# Altium footprint library PcbLib1.PcbLib: 2 footprints
Each footprint in its own frame and in the unit in brackets; x right, y up, seen from the top. Pads: shape width x height; smd on the part's side, far side on the other; paste and mask are expansions set on the pad; w line width, h text height; cw(c..) or ccw(c..) is an arc to the next point about the centre after c.
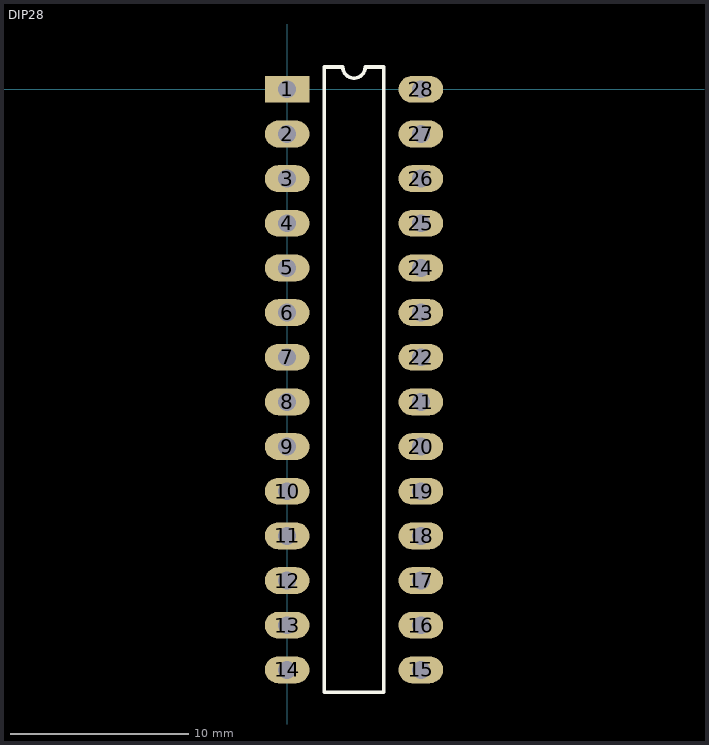
[diagram p0: the footprints below, top view; thin cyan lines are the x and y axes]

## DIP28 [mm]
pads (28):
  rect 2.5x1.5 hole 1: 1(0,0)
  oval 2.5x1.5 hole 1: 2(0,-2.5) 3(0,-5) 4(0,-7.5) 5(0,-10) 6(0,-12.5) 7(0,-15) 8(0,-17.5) 9(0,-20) 10(0,-22.5) 11(0,-25) 12(0,-27.5) 13(0,-30) 14(0,-32.5) 15(7.49,-32.5) 16(7.49,-30) 17(7.49,-27.5) 18(7.49,-25) 19(7.49,-22.5) 20(7.49,-20) 21(7.49,-17.5) 22(7.49,-15) 23(7.49,-12.5) 24(7.49,-10) 25(7.49,-7.5) 26(7.49,-5) 27(7.49,-2.5) 28(7.49,0)
Top Overlay:
  lines w0.2: 2.085,-33.75 5.405,-33.75 5.405,1.25 4.37,1.25 cw(c3.745,1.25) 3.12,1.25 2.085,1.25 2.085,-33.75

## PCBComponent_1 [mm]